# Altium schematic symbol library Sensor.SchLib: 16 symbols
Pins are listed as number, name and electrical type; pins without a type are passive.

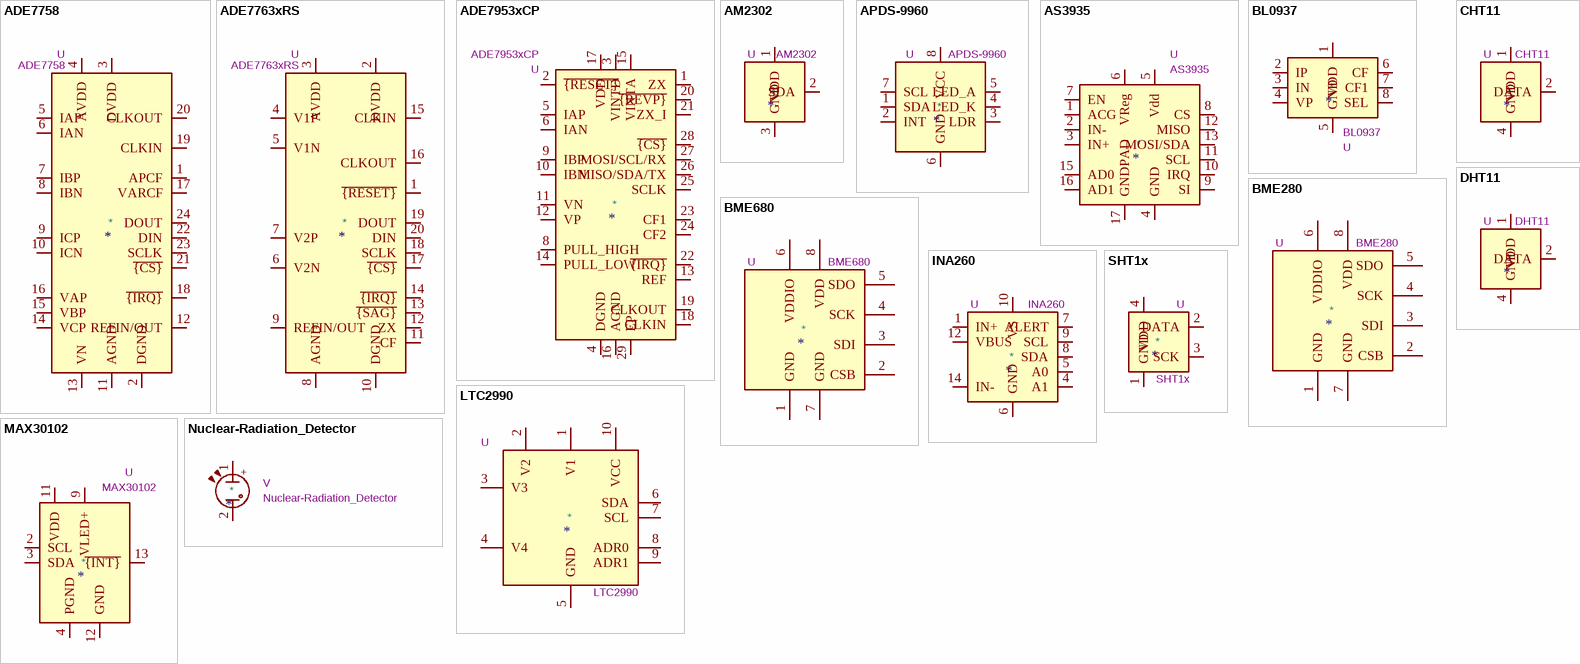
[diagram p0: symbols ADE7758 to SHT1x]

## ADE7758
designator *  value ADE7758  Reference: U
ki_keywords: Energy Metering; ki_description: Poly Phase Multifunction Energy Metering, SO-24; ki_fp_filters: SOIC*7.5x15.4mm*P1.27mm*; Footprint: Package_SO:SOIC-24W_7.5x15.4mm_P1.27mm; Datasheet: https://www.analog.com/media/en/technical-documentation/data-sheets/ADE7758.pdf
pins: 1 APCF, 2 DGND, 3 DVDD, 4 AVDD, 5 IAP, 6 IAN, 7 IBP, 8 IBN, 9 ICP, 10 ICN, 11 AGND, 12 REFIN/OUT, 13 VN, 14 VCP, 15 VBP, 16 VAP, 17 VARCF, 18 ~{{IRQ}}, 19 CLKIN, 20 CLKOUT, 21 ~{{CS}}, 22 DIN, 23 SCLK, 24 DOUT

## ADE7763xRS
designator *  value ADE7763xRS  Reference: U
ki_keywords: Energy Metering; ki_description: Single-Phase Active and Apparent Energy Metering, SSOP-20; ki_fp_filters: SSOP*5.3x7.2mm*P0.65mm*; Footprint: Package_SO:SSOP-20_5.3x7.2mm_P0.65mm; Datasheet: https://www.analog.com/media/en/technical-documentation/data-sheets/ADE7763.pdf
pins: 1 ~{{RESET}}, 2 DVDD, 3 AVDD, 4 V1P, 5 V1N, 6 V2N, 7 V2P, 8 AGND, 9 REFIN/OUT, 10 DGND, 11 CF, 12 ZX, 13 ~{{SAG}}, 14 ~{{IRQ}}, 15 CLKIN, 16 CLKOUT, 17 ~{{CS}}, 18 SCLK, 19 DOUT, 20 DIN

## ADE7953xCP
designator *  value ADE7953xCP  Reference: U
ki_keywords: Energy Metering; ki_description: Single Phase Multifunction Energy Metering with Neutral Current Measurement, LFCSP-28; ki_fp_filters: LFCSP*1EP*5x5mm*P0.5mm*; Footprint: Package_CSP:LFCSP-28-1EP_5x5mm_P0.5mm_EP3.14x3.14mm; Datasheet: https://www.analog.com/media/en/technical-documentation/data-sheets/ADE7953.pdf
pins: 1 ZX, 2 ~{{RESET}}, 3 VINTD, 4 DGND, 5 IAP, 6 IAN, 7 PULL_HIGH hidden, 8 PULL_HIGH, 9 IBP, 10 IBN, 11 VN, 12 VP, 13 REF, 14 PULL_LOW, 15 VINTA, 16 AGND, 17 VDD, 18 CLKIN, 19 CLKOUT, 20 ~{{REVP}}, 21 ZX_I, 22 ~{{IRQ}}, 23 CF1, 24 CF2, 25 SCLK, 26 MISO/SDA/TX, 27 MOSI/SCL/RX, 28 ~{{CS}}, 29 EP

## AM2302
designator *  value AM2302  Reference: U
ki_keywords: digital sensor; ki_description: 3.3 to 5.0V, Temperature and humidity module,  DHT22, AM2302; ki_fp_filters: ASAIR*AM2302*P2.54mm*; Footprint: Sensor:ASAIR_AM2302_P2.54mm_Vertical; Datasheet: http://akizukidenshi.com/download/ds/aosong/AM2302.pdf
pins: 1 VDD, 2 SDA, 3 GND, 4 GND hidden

## APDS-9960
designator *  value APDS-9960  Reference: U
ki_keywords: sensor gesture light rgb; ki_description: Digital Proximity, Ambient Light, RGB and Gesture Sensor; ki_fp_filters: Avago?APDS?9960*; Footprint: Sensor:Avago_APDS-9960; Datasheet: https://docs.broadcom.com/doc/AV02-4191EN
pins: 1 SDA, 2 INT, 3 LDR, 4 LED_K, 5 LED_A, 6 GND, 7 SCL, 8 VCC

## AS3935
designator *  value AS3935  Reference: U
ki_keywords: lightning sensor; ki_description: Programmable fully integrated Lightning Sensor IC; ki_fp_filters: *MLPQ*16*1EP*4x4mm*P0.65mm*; Footprint: Package_DFN_QFN:MLPQ-16-1EP_4x4mm_P0.65mm_EP2.8x2.8mm; Datasheet: https://www.embeddedadventures.com/datasheets/AS3935_Datasheet_EN_v2.pdf
pins: 1 ACG, 2 IN-, 3 IN+, 4 GND, 5 Vdd, 6 VReg, 7 EN, 8 CS, 9 SI, 10 IRQ, 11 SCL, 12 MISO, 13 MOSI/SDA, 15 AD0, 16 AD1, 17 GNDPAD

## BL0937
designator *  value BL0937  Reference: U
ki_keywords: current sensor; ki_description: Single Phase Energy Meter IC with Integrated Oscillator, SOP-8; ki_fp_filters: SOP*3.9x4.9mm*P1.27mm*; Footprint: Package_SO:SOP-8_3.9x4.9mm_P1.27mm; Datasheet: http://www.belling.com.cn/media/file_object/bel_product/BL0937/datasheet/BL0937_V1.02_en.pdf
pins: 1 VDD, 2 IP, 3 IN, 4 VP, 5 GND, 6 CF, 7 CF1, 8 SEL

## BME280
designator *  value BME280  Reference: U
ki_keywords: Bosch pressure humidity temperature environment environmental measurement digital; ki_description: 3-in-1 sensor, humidity, pressure, temperature, I2C and SPI interface, 1.71-3.6V, LGA-8; ki_fp_filters: *LGA*2.5x2.5mm*P0.65mm*Clockwise*; Footprint: Package_LGA:Bosch_LGA-8_2.5x2.5mm_P0.65mm_ClockwisePinNumbering; Datasheet: https://www.bosch-sensortec.com/media/boschsensortec/downloads/datasheets/bst-bme280-ds002.pdf
pins: 1 GND, 2 CSB, 3 SDI, 4 SCK, 5 SDO, 6 VDDIO, 7 GND, 8 VDD

## BME680
designator *  value BME680  Reference: U
ki_keywords: Bosch gas pressure humidity temperature environment environmental measurement digital; ki_description: 4-in-1 sensor, gas, humidity, pressure, temperature, I2C and SPI interface, 1.71-3.6V, LGA-8; ki_fp_filters: *LGA*3x3mm*P0.8mm*Clockwise*; Footprint: Package_LGA:Bosch_LGA-8_3x3mm_P0.8mm_ClockwisePinNumbering; Datasheet: https://ae-bst.resource.bosch.com/media/_tech/media/datasheets/BST-BME680-DS001.pdf
pins: 1 GND, 2 CSB, 3 SDI, 4 SCK, 5 SDO, 6 VDDIO, 7 GND, 8 VDD

## CHT11
designator *  value CHT11  Reference: U
ki_keywords: Digital temperature humidity sensor; ki_description: Temperature and humidity module; ki_fp_filters: Aosong*DHT11*5.5x12.0*P2.54mm*; Footprint: Sensor:Aosong_DHT11_5.5x12.0_P2.54mm; Datasheet: http://aosong.com/en/products-21.html
pins: 1 VDD, 2 DATA, 3 NC hidden, 4 GND

## DHT11
designator *  value DHT11  Reference: U
ki_keywords: digital sensor; ki_description: 3.3V to 5.5V, temperature and humidity module, DHT11; ki_fp_filters: Aosong*DHT11*5.5x12.0*P2.54mm*; Footprint: Sensor:Aosong_DHT11_5.5x12.0_P2.54mm; Datasheet: http://akizukidenshi.com/download/ds/aosong/DHT11.pdf
pins: 1 VDD, 2 DATA, 3 NC hidden, 4 GND

## INA260
designator *  value INA260  Reference: U
ki_keywords: Current/power/voltage monitor; ki_description: Current/power/voltage monitor with Integrated 2mΩ Shunt Resistor, 2.7V - 5.5V, I2C, TSSOP-16; ki_fp_filters: TSSOP*4.4x5mm*P0.65mm*; Footprint: Package_SO:TSSOP-16_4.4x5mm_P0.65mm; Datasheet: http://www.ti.com/lit/ds/symlink/ina260.pdf
pins: 1 IN+, 2 IN+ hidden, 3 IN+ hidden, 4 A1, 5 A0, 6 GND, 7 ALERT, 8 SDA, 9 SCL, 10 VS, 11 GND hidden, 12 VBUS, 13 NC hidden, 14 IN-, 15 IN- hidden, 16 IN- hidden

## LTC2990
designator *  value LTC2990  Reference: U
ki_keywords: Temperature Voltage Current Monitor I2C AFE; ki_description: Temperature Voltage and Current Monitor, I2C Interface, MSOP-10; ki_fp_filters: MSOP*3x3mm*P0.5mm*; Footprint: Package_SO:MSOP-10_3x3mm_P0.5mm; Datasheet: https://www.analog.com/media/en/technical-documentation/data-sheets/ltc2990.pdf
pins: 1 V1, 2 V2, 3 V3, 4 V4, 5 GND, 6 SDA, 7 SCL, 8 ADR0, 9 ADR1, 10 VCC

## MAX30102
designator *  value MAX30102  Reference: U
ki_keywords: Heart Rate; ki_description: Heart Rate Sensor, 14-OLGA; ki_fp_filters: Maxim*OLGA*3.3x5.6mm*P0.8mm*; Footprint: OptoDevice:Maxim_OLGA-14_3.3x5.6mm_P0.8mm; Datasheet: https://datasheets.maximintegrated.com/en/ds/MAX30102.pdf
pins: 1 NC hidden, 2 SCL, 3 SDA, 4 PGND, 5 NC hidden, 6 NC hidden, 7 NC hidden, 8 NC hidden, 9 VLED+, 10 VLED+ hidden, 11 VDD, 12 GND, 13 ~{{INT}}, 14 NC hidden

## Nuclear-Radiation_Detector
designator *  value Nuclear-Radiation_Detector  Reference: V
ki_keywords: nuclear ionising radiation sensor geiger mueller muller tube neutron counter ionization chamber; ki_description: Generic radiation detector; Datasheet: ~
pins: 1, 2
text: +

## SHT1x
designator *  value SHT1x  Reference: U
ki_keywords: digital temperature humidity sensor; ki_description: Temperature and humidity module; ki_fp_filters: SHT1x*; Footprint: Sensor:SHT1x; Datasheet: https://www.sensirion.com/fileadmin/user_upload/customers/sensirion/Dokumente/0_Datasheets/Humidity/Sensirion_Humidity_Sensors_SHT1x_Datasheet.pdf
pins: 1 GND, 2 DATA, 3 SCK, 4 VDD